# EAGLE library part ADT7316SMD (library aggiunte)
ADT7318 smd I2C DAC 4 Ch
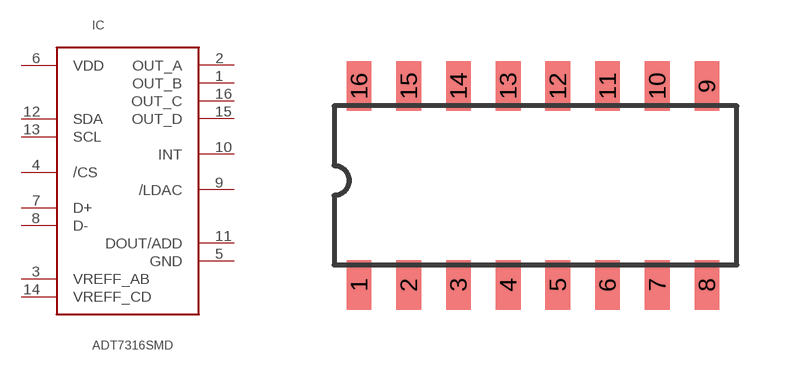
[diagram p1: symbol with the pads of ADT7318SMD; footprint ADT7318SMD]

Designator prefix IC

## ADT7316SMD  [ADT7318SMD]
1  OUT_B  out
2  OUT_A  out
3  VREFF_AB  in
4  /CS  in
5  GND  in
6  VDD  in
7  D+  in
8  D-  in
9  /LDAC  out
10  INT  out
11  DOUT/ADD  out
12  SDA
13  SCL  in
14  VREFF_CD  in
15  OUT_D  out
16  OUT_C  out

## Footprint ADT7318SMD (pad centres in mm)
ADT7318 smd I2C DAC 4 Ch
smd 0.635 x 1.27: 1 -10.16,-1.27; 2 -8.89,-1.27; 3 -7.62,-1.27; 4 -6.35,-1.27; 5 -5.08,-1.27; 6 -3.81,-1.27; 7 -2.54,-1.27; 8 -1.27,-1.27; 9 -1.27,3.81; 10 -2.54,3.81; 11 -3.81,3.81; 12 -5.08,3.81; 13 -6.35,3.81; 14 -7.62,3.81; 15 -8.89,3.81; 16 -10.16,3.81